# Altium footprint library X_2X1.6.PcbLib: 1 footprints
Each footprint in its own frame and in the unit in brackets; x right, y up, seen from the top. Pads: shape width x height; smd on the part's side, far side on the other; paste and mask are expansions set on the pad; w line width, h text height; cw(c..) or ccw(c..) is an arc to the next point about the centre after c.
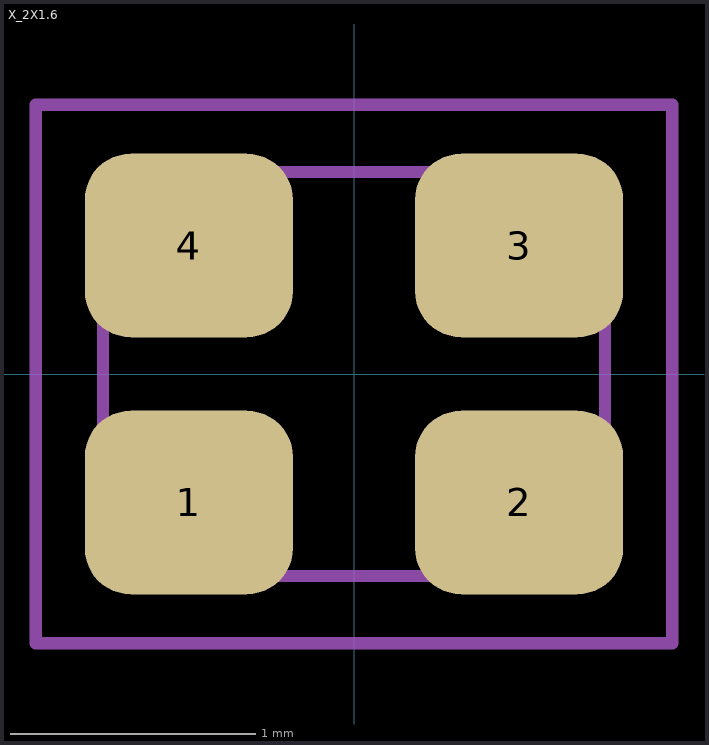
[diagram p0: the footprint, top view; thin cyan lines are the x and y axes]

## X_2X1.6 [mm]
pads (4):
  rrect50% 0.85x0.75 smd paste-0.02 mask+0.05: 1(-0.675,-0.525) 2(0.675,-0.525) 3(0.675,0.525) 4(-0.675,0.525)
Top Assembly:
  lines w0.05: -1.025,-0.825 -1.025,-0.025 -1.025,0.825 -0.1,0.825 0.2,0.825 1.025,0.825 1.025,-0.025 1.025,-0.825 -1.025,-0.825
Top Courtyard:
  lines w0.05: -1.3,-1.1 -1.3,1.1 1.3,1.1 1.3,-1.1 -1.3,-1.1
3D body "ECS-320-8-37B-CKY-TR.stp": height 0.6, standoff 0, extent -1.025,-0.825 1.025,0.825